# EAGLE library part LM2674 (library Simplex-ICs)
LM2674 power converter
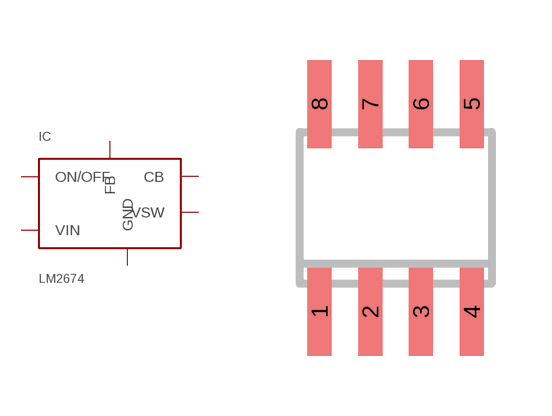
[diagram p10: symbol with the pads of SO-08; footprint SO-08]

Designator prefix IC

## LM2674  [SO-08]
1  CB
4  FB
5  ON/OFF
6  GND
7  VIN
8  VSW

## Footprint SO-08 (pad centres in mm)
D (R-PDSO-G8) Plastic Small Outline Package Source: http://focus.ti.com/lit/ds/symlink/sn65als176.pdf
smd 0.6 x 2.2: 1 -1.905,-2.6; 2 -0.635,-2.6; 3 0.635,-2.6; 4 1.905,-2.6; 5 1.905,2.6; 6 0.635,2.6; 7 -0.635,2.6; 8 -1.905,2.6